# Altium schematic symbol library ICs-LinearRegulators.SchLib: 2 symbols
Pins are listed as number, name and electrical type; pins without a type are passive.

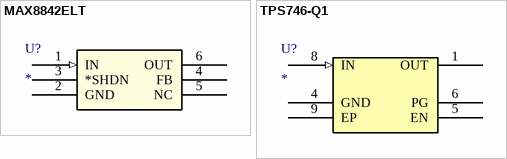
[diagram p0: symbols MAX8842ELT to TPS746-Q1]

## MAX8842ELT
designator U?
Ultra-Low-Noise, High PSRR, Low-Dropout, / 150mA Linear Regulators in µDFN; Manufacturer: Maxim Integrated; PartNumber: MAX8842ELT+; Value: Value; PackageReference: uDFN-6; Mounting Technology: Surface Mount
footprint uDFN-6
pins: 1 IN (in), 2 GND (power), 3 *SHDN, 4 FB, 5 NC, 6 OUT

## TPS746-Q1
designator U?
1-A LDO With Power-Good in Small Wettable Flank WSON Packages; Manufacturer: Texas Instruments; PartNumber: TPS746; Value: Value; PackageReference: WSON-8; Mounting Technology: Surface Mount
footprint WSON-8 (3x3MM)-TI (SON, 8-Leads, Body 3.00x3.00mm, Pitch 0.65mm, Thermal Pad 2.35x1.40mm, IPC Medium Density)
pins: 1 OUT, 4 GND (power), 5 EN, 6 PG, 8 IN (in), 9 EP (power)